# Altium footprint library BB9017A.01.A.2.PcbLib: 1 footprints
Each footprint in its own frame and in the unit in brackets; x right, y up, seen from the top. Pads: shape width x height; smd on the part's side, far side on the other; paste and mask are expansions set on the pad; w line width, h text height; cw(c..) or ccw(c..) is an arc to the next point about the centre after c.
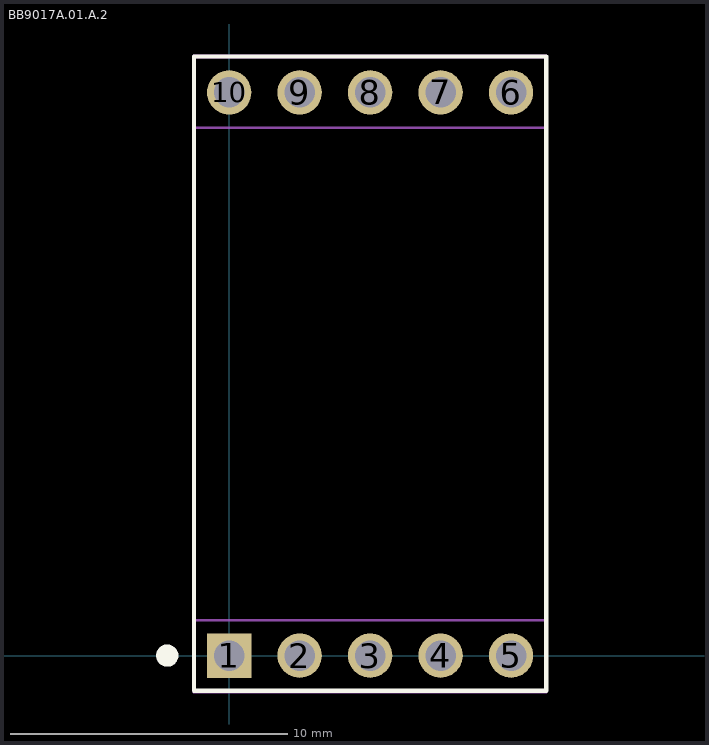
[diagram p0: the footprint, top view; thin cyan lines are the x and y axes]

## BB9017A.01.A.2 [mm]
height 3.56
pads (10):
  rect 1.6x1.6 hole 1.1: 1(0,0)
  round 1.6 hole 1.1: 2(2.54,0) 3(5.08,0) 4(7.62,0) 5(10.16,0) 6(10.16,20.3) 7(7.62,20.3) 8(5.08,20.3) 9(2.54,20.3) 10(0,20.3)
Top Overlay:
  circle w0.4: c-2.232,0 r0.2
  lines w0.1: -1.02,-1.305 -0.916,-1.305
  lines w0.15: -1.27,-1.27 11.43,-1.27 11.43,21.59 -1.27,21.59 -1.27,-1.27
  lines w0.152: -1.27,1.27 -1.27,-1.27 1.235,-1.27
Mechanical 13:
  lines w0.1: -1.27,-1.32 -1.27,21.62 11.43,21.62 11.43,-1.32 -1.27,-1.32 ; -1.27,-1.27 -1.27,1.27 11.43,1.27 11.43,-1.27 -1.27,-1.27 ; -1.27,19.03 11.43,19.03 11.43,21.57 -1.27,21.57 -1.27,19.03
Mechanical 15:
  lines w0.1: -1.27,-1.32 11.43,-1.32 11.43,21.62 -1.27,21.62 -1.27,-1.32
3D body: height 13.5, standoff 1.96, extent -1.28,-1.25 11.44,21.68
3D body: height 8.25, standoff -3.35, extent -1.52,19.05 11.68,21.55
3D body: height 8.25, standoff -3.35, extent -1.52,-1.25 11.68,1.25